# EAGLE library part BSZ165N04NS-G (library NEON-BLADE-2024)
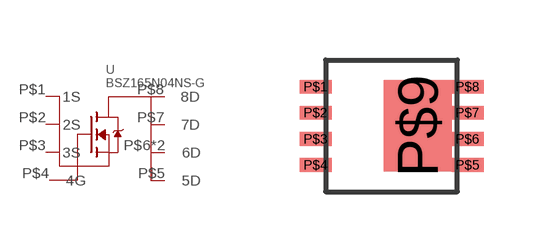
[diagram p45: symbol with the pads of BSZ165N04NS-G; footprint BSZ165N04NS-G]

Designator prefix -

## BSZ165N04NS-G  [BSZ165N04NS-G]
P$1  1S
P$2  2S
P$3  3S
P$4  4G
P$5  5D
P$6  6D
P$7  7D
P$8  8D
P$9  6D

## Footprint BSZ165N04NS-G (pad centres in mm)
smd 0.8 x 0.34: P$1 -1.9,0.98; P$2 -1.9,0.33; P$3 -1.9,-0.33; P$4 -1.9,-0.98; P$5 1.9,-0.98; P$6 1.9,-0.33; P$7 1.9,0.33; P$8 1.9,0.98
smd 1.69 x 2.29: P$9 0.655,0